# EAGLE library part PARTICLE_PHOTON (library PP_Sensors)
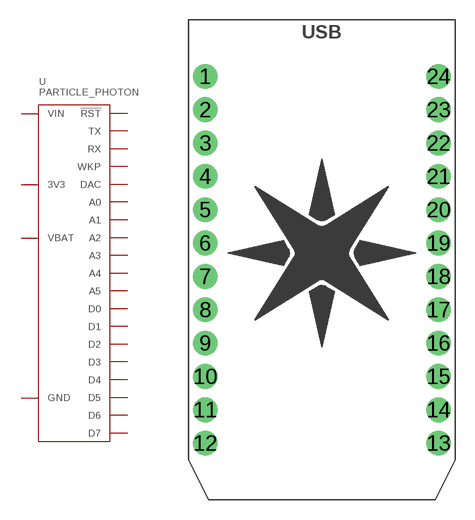
[diagram p7: symbol with the pads of PARTICLE_PHOTON_PTH; footprint PARTICLE_PHOTON_PTH]

Designator prefix U

## PARTICLE_PHOTON_PTH  [PARTICLE_PHOTON_PTH]
1  VIN
2  GND
3  TX
4  RX
5  WKP
6  DAC
7  A5
8  A4
9  A3
10  A2
11  A1
12  A0
13  D0
14  D1
15  D2
16  D3
17  D4
18  D5
19  D6
20  D7
21  GND
22  VBAT
23  !RST
24  3V3

## Footprint PARTICLE_PHOTON_PTH (pad centres in mm)
drill 1.016 pad 1.88: 1 -8.89,-4.318; 2 -8.89,-6.858; 3 -8.89,-9.398; 4 -8.89,-11.938; 5 -8.89,-14.478; 6 -8.89,-17.018; 7 -8.89,-19.558; 8 -8.89,-22.098; 9 -8.89,-24.638; 10 -8.89,-27.178; 11 -8.89,-29.718; 12 -8.89,-32.258; 13 8.89,-32.258; 14 8.89,-29.718; 15 8.89,-27.178; 16 8.89,-24.638; 17 8.89,-22.098; 18 8.89,-19.558; 19 8.89,-17.018; 20 8.89,-14.478; 21 8.89,-11.938; 22 8.89,-9.398; 23 8.89,-6.858; 24 8.89,-4.318